# EAGLE library part PN (library PN MOSFET)
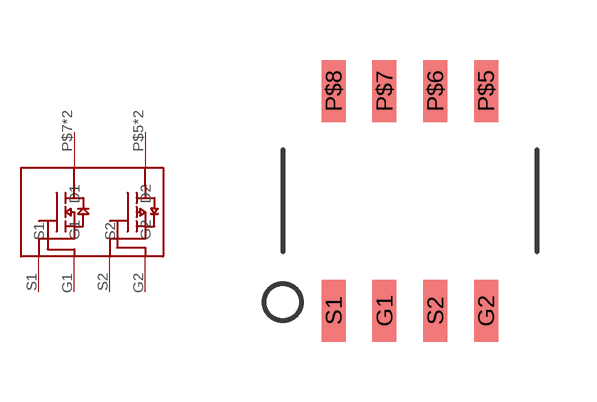
[diagram p0: symbol with the pads of PN; footprint PN]

Designator prefix -

## PN  [PN]
G1  G1
G2  G2
P$5  D2
P$6  D2
P$7  D1
P$8  D1
S1  S1
S2  S2

## Footprint PN (pad centres in mm)
smd 0.6 x 1.55: G1 -1.27,-2.75; G2 1.27,-2.75; P$5 1.27,2.75; P$6 0,2.75; P$7 -1.27,2.75; P$8 -2.54,2.75; S1 -2.54,-2.75; S2 0,-2.75